# Altium schematic symbol library footprint_link.SchLib: 1 symbol
Pins are listed as number, name and electrical type; pins without a type are passive.

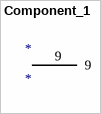
[diagram p0: symbol Component_1]

## Component_1
designator *
footprint R0402 (Footprint not found)
pins: 9